# Altium integrated library TP4056.IntLib: 1 symbol
Pins are listed as number, name and electrical type; pins without a type are passive.

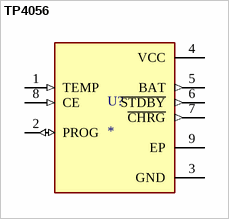
[diagram p0: symbol TP4056]

## TP4056
designator U?
Complete single cell Li-Ion battery with a constant current / constant voltage linear charger; MF: NanJing Top Power ASIC Corp.; MP: TP4056; Availability: Not in stock; SnapEDA_Link: https://www.snapeda.com/parts/TP4056/NanJing+Top+Power+ASIC+Corp./view-part/?ref=snap; Check_prices: https://www.snapeda.com/parts/TP4056/NanJing+Top+Power+ASIC+Corp./view-part/?ref=eda; Price: None; Package: Package; Value: *
footprint SOP127P600X175-9N
pins: 1 TEMP (in), 2 PROG (io), 3 GND (power), 4 VCC (power), 5 BAT (out), 6 ~{STDBY} (out), 7 ~{CHRG} (out), 8 CE (in), 9 EP